# Altium footprint library 3362P-1-205LF-SMD.PcbLib: 1 footprints
Each footprint in its own frame and in the unit in brackets; x right, y up, seen from the top. Pads: shape width x height; smd on the part's side, far side on the other; paste and mask are expansions set on the pad; w line width, h text height; cw(c..) or ccw(c..) is an arc to the next point about the centre after c.
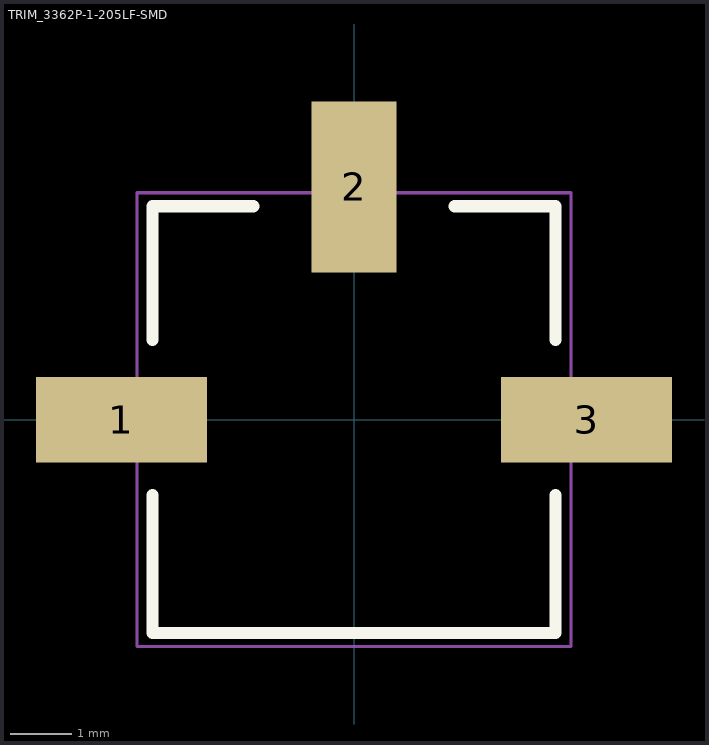
[diagram p0: the footprint, top view; thin cyan lines are the x and y axes]

## TRIM_3362P-1-205LF-SMD [mm]
pads (3):
  rect 2.8x1.4 smd: 1(-3.81,0) 3(3.81,0)
  rect 1.4x2.8 smd: 2(0,3.81)
Top Overlay:
  lines w0.2: -3.3,-1.235 -3.3,-3.495 3.3,-3.495 3.3,-1.235 ; -3.3,1.305 -3.3,3.495 -1.65,3.495 ; 1.65,3.495 3.3,3.495 3.3,1.305
Mechanical 1:
  lines w0.05: -3.55,-3.715 -3.55,3.715 3.55,3.715 3.55,-3.715 -3.55,-3.715